# Altium footprint library SmartDoor.PcbLib: 29 footprints (part 1 of 2)
Each footprint in its own frame and in the unit in brackets; x right, y up, seen from the top. Pads: shape width x height; smd on the part's side, far side on the other; paste and mask are expansions set on the pad; w line width, h text height; cw(c..) or ccw(c..) is an arc to the next point about the centre after c.
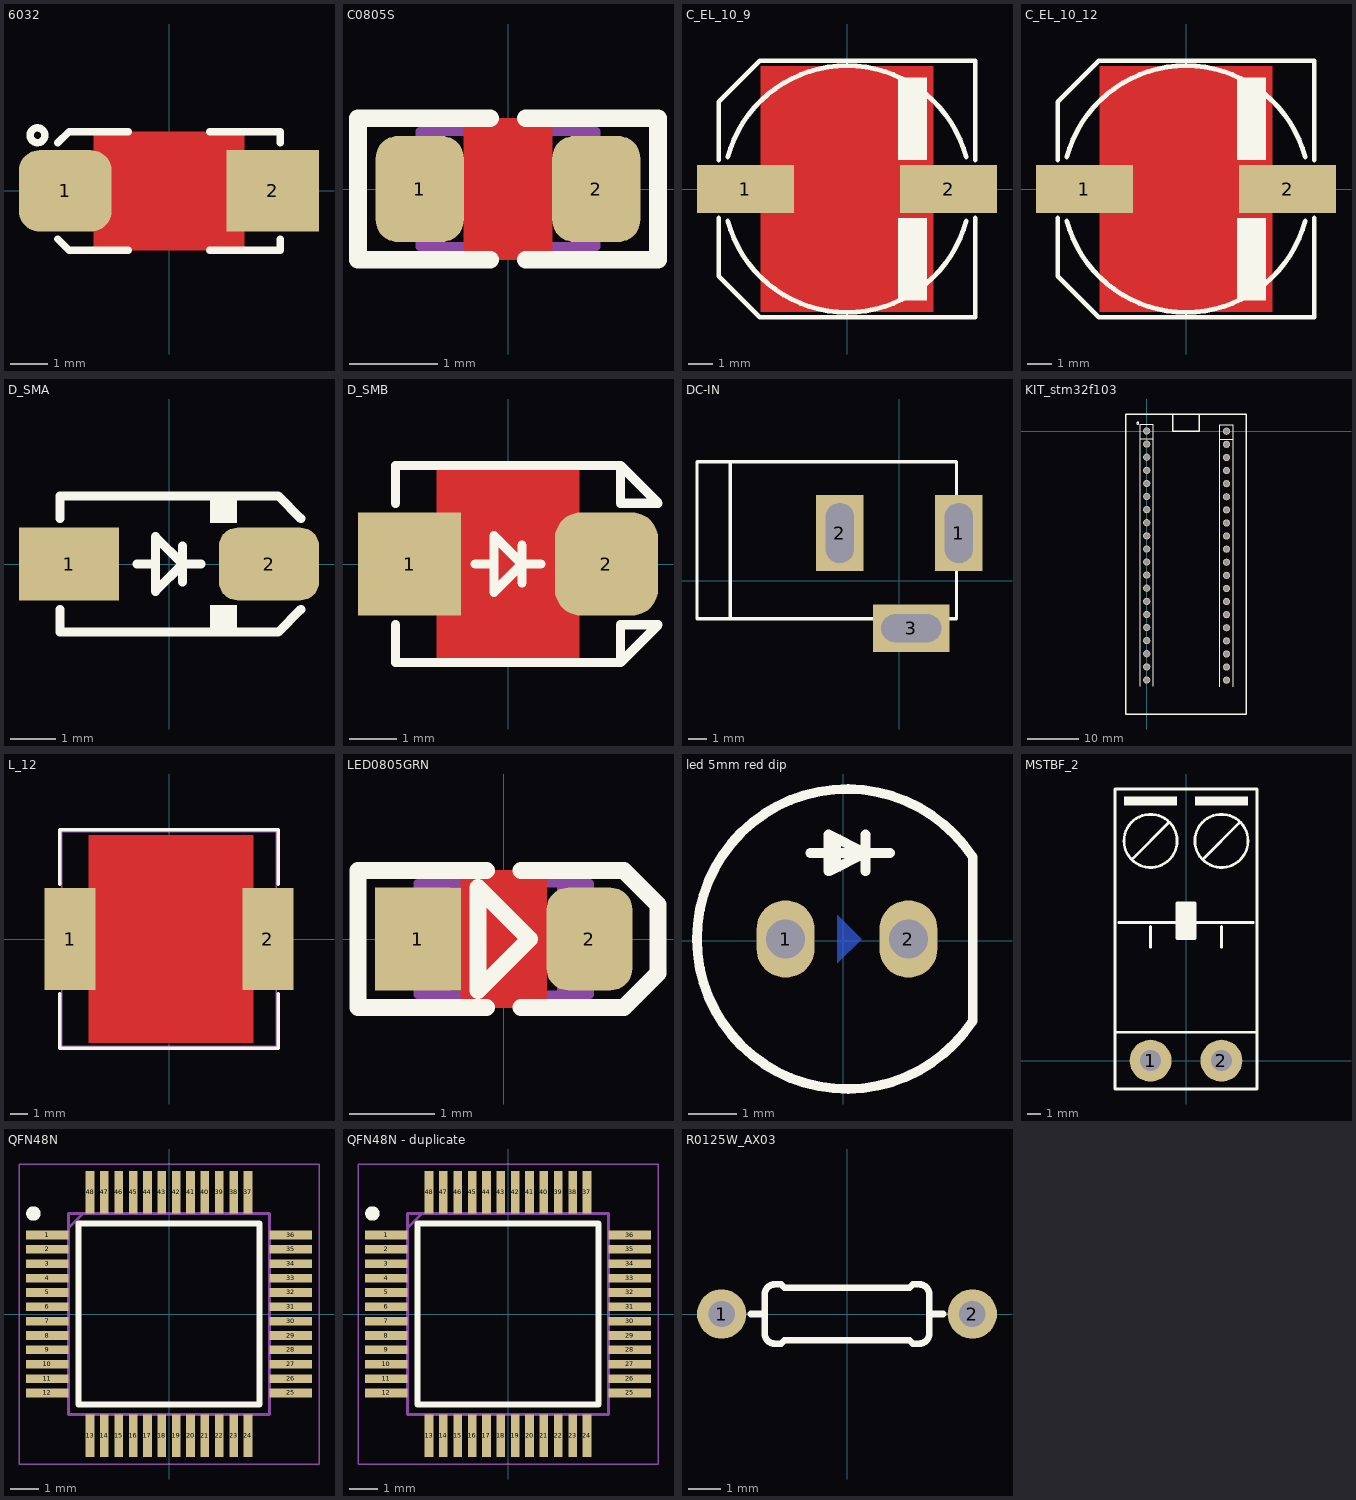
[diagram p0: the footprints below, top view; thin cyan lines are the x and y axes]

## 6032 [mm] "CAPACITOR, TAN C, TAN F, TAN U, TAN L, 6032P, 6.0X3.2mm"
height 2.8
pads (2):
  rrect50% 2.5x2.2 smd: 1(-2.8,0)
  rect 2.5x2.2 smd: 2(2.8,0)
Top Layer:
  pour cut-out: -2.032,1.6 2.032,1.6 2.032,-1.6 -2.032,-1.6
Top Overlay:
  circle w0.2: c-3.55,1.5 r0.2
  lines w0.2: -3,-1.3 -2.7,-1.6 -1.1,-1.6 ; -3,1.3 -2.7,1.6 -1.1,1.6 ; 1.1,-1.6 3,-1.6 3,-1.3 ; 1.1,1.6 3,1.6 3,1.3
3D body "User Library-CAP_TANT_6032-28_y.step": height 2.8, standoff 0, extent -3.15,-1.75 3.15,1.75

## C0805S [mm] "CHIP Capacitor, 2.0X1.3mm, 0805, soldered"
height 10.16
pads (2):
  rrect50% 1x1.2 smd mask+0.075: 1(-1,0) 2(1,0)
Top Layer:
  pour cut-out: -0.5,0.8 0.5,0.8 0.5,-0.8 -0.5,-0.8
Top Overlay:
  lines w0.2: -0.2,-0.8 -1.7,-0.8 -1.7,0.8 -0.2,0.8 ; 0.2,-0.8 1.7,-0.8 1.7,0.8 0.2,0.8
Mechanical 13:
  lines w0.1: -1,-0.65 -1,0.65 1,0.65 1,-0.65 -1,-0.65
3D body "c0805_Cap.step": height 0.8, standoff 0, extent -1.4,-0.625 1.4,0.625

## C_EL_10_9 [mm] "Electrolytic Cap, 10.3mm, L: 8.7mm"
height 8.7
pads (2):
  rect 4x2 smd: 1(-4.2,0) 2(4.2,0)
Top Layer:
  pour cut-out: -3.556,5.08 -3.556,-5.08 3.556,-5.08 3.556,5.08
Top Overlay:
  rectangle: 2.1,1.2 3.3,4.6
  rectangle: 2.1,-4.6 3.3,-1.2
  lines w0.2: -5.3,-1.2 -5.3,-3.6 -3.6,-5.3 5.3,-5.3 5.3,-1.2 ; -5.3,1.2 -5.3,3.6 -3.6,5.3 5.3,5.3 5.3,1.2 ; -4.926,-1.32 ccw(c0,0) 4.926,-1.32 ; -4.926,1.32 cw(c0,0) 4.926,1.32
3D body "10x8.7x4.5.stp": height -0.4, standoff -9.1, extent -5.5,-5.15 5.5,5.15

## C_EL_10_12 [mm] "Electrolytic Cap, 10.3mm, L: 12.4mm"
height 12.4
pads (2):
  rect 4x2 smd: 1(-4.2,0) 2(4.2,0)
Top Layer:
  pour cut-out: -3.556,5.08 -3.556,-5.08 3.556,-5.08 3.556,5.08
Top Overlay:
  rectangle: 2.1,-4.6 3.3,-1.2
  rectangle: 2.1,1.2 3.3,4.6
  lines w0.2: -5.3,-1.2 -5.3,-3.6 -3.6,-5.3 5.3,-5.3 5.3,-1.2 ; -5.3,1.2 -5.3,3.6 -3.6,5.3 5.3,5.3 5.3,1.2 ; -4.926,-1.32 ccw(c0,0) 4.926,-1.32 ; -4.926,1.32 cw(c0,0) 4.926,1.32
3D body "10x12.4x4.5.stp": height 12.45, standoff 0.05, extent -5.5,-5.15 5.5,5.15

## D_SMA [mm] "SMA Molded Diode, 2-Leads, Body 4.3x2.7mm, SOD-128"
height 2.4
pads (2):
  rect 2.2x1.6 smd: 1(-2.2,0)
  rrect50% 2.2x1.6 smd: 2(2.2,0)
Top Overlay:
  rectangle: 0.9,-1.5 1.5,-0.9
  rectangle: 0.9,0.9 1.5,1.5
  lines w0.2: -2.4,-1 -2.4,-1.5 2.4,-1.5 2.9,-1 ; -2.4,1 -2.4,1.5 2.4,1.5 2.9,1 ; -0.7,0 -0.3,0 ; 0.3,-0.4 0.3,0.4 ; 0.7,0 0.3,0 ; 0.3,0 -0.3,0.6 -0.3,-0.6 0.3,0
3D body "User Library-DIOM5528X26.step": height 2.6, standoff 0.03, extent -2.75,-1.4 2.75,1.4

## D_SMB [mm] "SMB Molded Diode, 2-Leads, Body 4.3x3.5mm"
height 10.16
pads (2):
  rect 2.2x2.2 smd: 1(-2.1,0)
  rrect50% 2.2x2.2 smd: 2(2.1,0)
Top Layer:
  pour cut-out: -1.524,2.1 -1.524,-2.1 1.524,-2.1 1.524,2.1
Top Overlay:
  lines w0.2: -2.4,-1.3 -2.4,-2.1 2.4,-2.1 ; -2.4,1.3 -2.4,2.1 2.4,2.1 ; -0.7,0 -0.3,0 ; 0.3,-0.4 0.3,0.4 ; 0.7,0 0.3,0 ; 0.3,0 -0.3,-0.6 -0.3,0.6 0.3,0 ; 2.4,-2.1 3.2,-1.3 2.4,-1.3 2.4,-2.1 ; 2.4,2.1 2.4,1.3 3.2,1.3 2.4,2.1
3D body "User Library-DIOM5539X24.step": height 2.45, standoff 0.03, extent -2.75,-1.95 2.75,1.95

## DC-IN [mm]
height 10.16
pads (3):
  rect 2.54x4.064 hole 1.5 slot 3.2 at 90 deg: 1(3.175,2.54) 2(-3.175,2.54)
  rect 4.064x2.54 hole 1.5 slot 3.2 at 0 deg: 3(0.635,-2.54)
Top Overlay:
  lines w0.178: -9.017,-2.032 -9.017,6.35 ; -10.795,-2.032 3.048,-2.032 3.048,6.35 -10.795,6.35 -10.795,-2.032
3D body "SW3dPS-dc range - dc connector[4840.2201].STEP": height 11.02, standoff -3.48, extent -10.423,-2.67 3.404,6.836

## KIT_stm32f103 [mm]
pads (40):
  round 1.4 / inner round 1.4 / far side oval 2.2x1.4 hole 1: 1(0,0) 2(0,-2.54) 3(0,-5.08) 4(0,-7.62) 5(0,-10.16) 6(0,-12.7) 7(0,-15.24) 8(0,-17.78) 9(0,-20.32) 10(0,-22.86) 11(0,-25.4) 12(0,-27.94) 13(0,-30.48) 14(0,-33.02) 15(0,-35.56) 16(0,-38.1) 17(0,-40.64) 18(0,-43.18) 19(0,-45.72) 20(0,-48.26) 21(15.474,-48.302) 22(15.474,-45.762) 23(15.474,-43.222) 24(15.474,-40.682) 25(15.474,-38.142) 26(15.474,-35.602) 27(15.474,-33.062) 28(15.474,-30.522) 29(15.474,-27.982) 30(15.474,-25.442) 31(15.474,-22.902) 32(15.474,-20.362) 33(15.474,-17.822) 34(15.474,-15.282) 35(15.474,-12.742) 36(15.474,-10.202) 37(15.474,-7.662) 38(15.474,-5.122) 39(15.474,-2.582) 40(15.474,-0.042)
Top Overlay:
  circle w0.2: c-1.7,1.53 r0.2
  lines w0.2: -1.27,-49.53 -1.27,1.27 1.27,1.27 1.27,-49.53 ; -1.27,-1.53 1.27,-1.53 ; 14.204,-49.572 14.204,1.228 16.744,1.228 16.744,-49.572 ; 14.204,-1.572 16.744,-1.572
  lines w0.254: 5.08,3.302 5.08,0 10.16,0 10.16,3.302 ; -4.064,-54.864 -4.064,3.302 19.304,3.302 19.304,-54.864 -4.064,-54.864
3D body "PBD-2.stp": height 8.5, standoff -3.15, extent 14.204,-3.852 16.744,1.228
3D body "PBD-2.stp": height 8.5, standoff -3.15, extent 14.204,-8.932 16.744,-3.852
3D body "PBD-2.stp": height 8.5, standoff -3.15, extent 14.204,-14.012 16.744,-8.932
3D body "PBD-2.stp": height 8.5, standoff -3.15, extent 14.204,-19.092 16.744,-14.012
3D body "PBD-2.stp": height 8.5, standoff -3.15, extent 14.204,-24.172 16.744,-19.092
3D body "PBD-2.stp": height 8.5, standoff -3.15, extent 14.204,-29.252 16.744,-24.172
3D body "PBD-2.stp": height 8.5, standoff -3.15, extent 14.204,-34.332 16.744,-29.252
3D body "PBD-2.stp": height 8.5, standoff -3.15, extent 14.204,-39.412 16.744,-34.332
3D body "PBD-2.stp": height 8.5, standoff -3.15, extent 14.204,-44.492 16.744,-39.412
3D body "PBD-2.stp": height 8.5, standoff -3.15, extent 14.204,-49.572 16.744,-44.492
3D body "PBD-2.stp": height 8.5, standoff -3.15, extent -1.27,-3.81 1.27,1.27
3D body "PBD-2.stp": height 8.5, standoff -3.15, extent -1.27,-8.89 1.27,-3.81
3D body "PBD-2.stp": height 8.5, standoff -3.15, extent -1.27,-13.97 1.27,-8.89
3D body "PBD-2.stp": height 8.5, standoff -3.15, extent -1.27,-19.05 1.27,-13.97
3D body "PBD-2.stp": height 8.5, standoff -3.15, extent -1.27,-24.13 1.27,-19.05
3D body "PBD-2.stp": height 8.5, standoff -3.15, extent -1.27,-29.21 1.27,-24.13
3D body "PBD-2.stp": height 8.5, standoff -3.15, extent -1.27,-34.29 1.27,-29.21
3D body "PBD-2.stp": height 8.5, standoff -3.15, extent -1.27,-39.37 1.27,-34.29
3D body "PBD-2.stp": height 8.5, standoff -3.15, extent -1.27,-44.45 1.27,-39.37
3D body "PBD-2.stp": height 8.5, standoff -3.15, extent -1.27,-49.53 1.27,-44.45
3D body "stm32f103c8t6-board.x_t": height 19.26, standoff 2.26, extent -3.88,-54.752 19.12,3.048

## L_12 [mm] "INDUCTOR, 13.5x12.5mm, DR125, CDRH127, D128C 931AS"
height 7
pads (2):
  rect 3x6 smd: 1(-5.8,0) 2(5.8,0)
Top Layer:
  pour cut-out: -4.699,6.096 4.953,6.096 4.953,-6.096 -4.699,-6.096
Top Overlay:
  lines w0.2: -6.4,-3.2 -6.4,-6.4 6.4,-6.4 6.4,-3.2 ; -6.4,3.2 -6.4,6.4 6.4,6.4 6.4,3.2
Mechanical 13:
  lines w0.1: -6.3,-6.3 -6.3,6.3 6.3,6.3 6.3,-6.3 -6.3,-6.3
3D body "User Library-D128C.step": height 8.16, standoff 0, extent -6.158,-6.15 6.158,6.15

## LED0805GRN [mm] "LED SMD 0805, GREEN"
height 1.4
pads (2):
  rect 1x1.2 smd mask+0.075: 1(-1,0)
  rrect50% 1x1.2 smd mask+0.075: 2(1,0)
Top Layer:
  pour cut-out: -0.5,0.8 0.5,0.8 0.5,-0.8 -0.5,-0.8
Top Overlay:
  lines w0.2: -0.2,-0.8 -1.7,-0.8 -1.7,0.8 -0.2,0.8 ; 0.2,-0.8 1.4,-0.8 1.8,-0.4 1.8,0.4 1.4,0.8 0.2,0.8 ; -0.3,-0.6 0.3,0 -0.3,0.6 -0.3,-0.6
Mechanical 13:
  region: 0.995,-0.19 0.842,-0.19 0.842,-0.65 0.995,-0.65
  region: 0.995,0.65 0.842,0.65 0.842,0.191 0.995,0.191
  region: 0.848,0.65 0.619,0.65 0.619,-0.65 0.848,-0.65
  rectangle: -0.995,-0.65 -0.842,-0.191
  rectangle: -0.995,0.19 -0.842,0.65
  rectangle: -0.848,-0.65 -0.619,0.65
  lines w0.102: -0.305,0.356 -0.076,0.025 -0.33,0 -0.076,-0.33 ; 0.102,0.356 0.33,0.025 0.076,0 0.33,-0.33 ; -0.076,-0.33 -0.229,-0.279 -0.076,-0.178 -0.076,-0.33 ; 0.33,-0.33 0.178,-0.279 0.33,-0.178 0.33,-0.33 ; -1,-0.65 -1,-0.191 ccw(c-1,0) -1,0.191 -1,0.65 1,0.65 1,0.191 ccw(c1,0) 1,-0.191 1,-0.65 -1,-0.65
3D body "User Library-Wurth Elektronik WL-SMCW 0805 (2012) LED Lens (Separate Body).step": height 0.7, standoff 0.3, extent -0.7,-0.625 0.7,0.625
3D body "User Library-Wurth Elektronik WL-SMCW 0805 (2012) LED Base (Separate Lens).step": height 0.64, standoff 0, extent -1,-0.625 1,0.625

## led 5mm red dip [mm]
height 10.16
pads (2):
  oval 1.2x1.6 hole 0.8: 1(-1.188,0.033) 2(1.352,0.033)
Bottom Layer:
  region: -0.118,0.533 -0.118,-0.467 0.382,0.033
Top Overlay:
  rectangle: -0.299,1.43 -0.045,2.192
  lines w0.2: -0.68,1.811 0.971,1.811 ; 0.463,1.43 0.463,2.192 ; 2.682,-1.667 2.682,1.733 ; 2.682,-1.656 cw(c0.082,0.033) 2.682,1.721 ; -0.299,1.43 -0.299,2.192 0.463,1.811 -0.299,1.43
3D body "LED-D5R.step": height 9.14, standoff -6.3, extent -2.918,-2.967 2.582,3.033

## MSTBF_2 [mm] "PHOENIX MSTB 2, 5-G, 5.08mm pitch, 2pin"
height 10.16
pads (2):
  round 3 hole 1.5: 1(-2.54,0) 2(2.54,0)
Top Overlay:
  circle w0.2: c2.54,15.748 r1.905
  circle w0.2: c-2.54,15.748 r1.905
  region: 0.635,11.303 -0.635,11.303 -0.635,8.763 0.635,8.763
  region: 4.445,18.923 0.635,18.923 0.635,18.288 4.445,18.288
  region: -0.635,18.923 -4.445,18.923 -4.445,18.288 -0.635,18.288
  lines w0.2: -5.08,2.032 5.08,2.032 ; -4.826,9.906 4.826,9.906 ; -3.81,14.478 -1.27,17.018 ; -2.54,8.128 -2.54,9.618 ; 1.27,14.478 3.81,17.018 ; 2.54,8.128 2.54,9.618 ; -5.08,-2.032 5.08,-2.032 5.08,19.468 -5.08,19.468 -5.08,-2.032 ; -0.635,8.763 0.635,8.763 0.635,11.303 -0.635,11.303 -0.635,8.763
3D body "PHOENIX_MSTB2W.stp": height 15, standoff 0, extent -5,1 5,19.2
3D body "PHOENIX_MSTB2.stp": height 8.6, standoff -3.5, extent -5,-2 5,10

## PCBComponent_1 [mm]

## QFN48N [mm]
pads (48):
  rect 1.475x0.3 smd: 1(-4.238,2.75) 2(-4.238,2.25) 3(-4.238,1.75) 4(-4.238,1.25) 5(-4.238,0.75) 6(-4.238,0.25) 7(-4.238,-0.25) 8(-4.238,-0.75) 9(-4.238,-1.25) 10(-4.238,-1.75) 11(-4.238,-2.25) 12(-4.238,-2.75) 25(4.238,-2.75) 26(4.238,-2.25) 27(4.238,-1.75) 28(4.238,-1.25) 29(4.238,-0.75) 30(4.238,-0.25) 31(4.238,0.25) 32(4.238,0.75) 33(4.238,1.25) 34(4.238,1.75) 35(4.238,2.25) 36(4.238,2.75)
  rect 0.3x1.475 smd: 13(-2.75,-4.238) 14(-2.25,-4.238) 15(-1.75,-4.238) 16(-1.25,-4.238) 17(-0.75,-4.238) 18(-0.25,-4.238) 19(0.25,-4.238) 20(0.75,-4.238) 21(1.25,-4.238) 22(1.75,-4.238) 23(2.25,-4.238) 24(2.75,-4.238) 37(2.75,4.238) 38(2.25,4.238) 39(1.75,4.238) 40(1.25,4.238) 41(0.75,4.238) 42(0.25,4.238) 43(-0.25,4.238) 44(-0.75,4.238) 45(-1.25,4.238) 46(-1.75,4.238) 47(-2.25,4.238) 48(-2.75,4.238)
Top Overlay:
  circle w0.25: c-4.725,3.5 r0.125
  lines w0.2: -3.15,-3.15 3.15,-3.15 3.15,3.15 -3.15,3.15 -3.15,-3.15
Mechanical 13:
  lines w0.1: -3.5,3 -3,3.5 ; -3.5,-3.5 3.5,-3.5 3.5,3.5 -3.5,3.5 -3.5,-3.5
Mechanical 15:
  lines w0.05: -5.225,-5.225 5.225,-5.225 5.225,5.225 -5.225,5.225 -5.225,-5.225
3D body "STM32F103C8T6TR.stp": height 1.6, standoff 0, extent -4.5,-4.5 4.5,4.5

## QFN48N - duplicate [mm]
height 10.16
pads (48):
  rect 1.475x0.3 smd: 1(-4.238,2.75) 2(-4.238,2.25) 3(-4.238,1.75) 4(-4.238,1.25) 5(-4.238,0.75) 6(-4.238,0.25) 7(-4.238,-0.25) 8(-4.238,-0.75) 9(-4.238,-1.25) 10(-4.238,-1.75) 11(-4.238,-2.25) 12(-4.238,-2.75) 25(4.238,-2.75) 26(4.238,-2.25) 27(4.238,-1.75) 28(4.238,-1.25) 29(4.238,-0.75) 30(4.238,-0.25) 31(4.238,0.25) 32(4.238,0.75) 33(4.238,1.25) 34(4.238,1.75) 35(4.238,2.25) 36(4.238,2.75)
  rect 0.3x1.475 smd: 13(-2.75,-4.238) 14(-2.25,-4.238) 15(-1.75,-4.238) 16(-1.25,-4.238) 17(-0.75,-4.238) 18(-0.25,-4.238) 19(0.25,-4.238) 20(0.75,-4.238) 21(1.25,-4.238) 22(1.75,-4.238) 23(2.25,-4.238) 24(2.75,-4.238) 37(2.75,4.238) 38(2.25,4.238) 39(1.75,4.238) 40(1.25,4.238) 41(0.75,4.238) 42(0.25,4.238) 43(-0.25,4.238) 44(-0.75,4.238) 45(-1.25,4.238) 46(-1.75,4.238) 47(-2.25,4.238) 48(-2.75,4.238)
Top Overlay:
  circle w0.25: c-4.725,3.5 r0.125
  lines w0.2: -3.15,-3.15 -3.15,3.15 3.15,3.15 3.15,-3.15 -3.15,-3.15
Mechanical 13:
  lines w0.1: -3.5,3 -3,3.5 ; -3.5,-3.5 -3.5,3.5 3.5,3.5 3.5,-3.5 -3.5,-3.5
Mechanical 15:
  lines w0.05: -5.225,-5.225 -5.225,5.225 5.225,5.225 5.225,-5.225 -5.225,-5.225
3D body "STM32F103C8T6TR.stp": height 1.6, standoff 0, extent -4.5,-4.5 4.5,4.5

## R0125W_AX03 [mm] "RESISTOR 1/8 WATT, AXIAL0.3 INCH SPACING"
height 10.16
pads (2):
  round 1.5 hole 0.8: 1(-3.81,0) 2(3.81,0)
Top Overlay:
  lines w0.2: -2.921,0 -2.5,0 ; 2.5,0 2.921,0 ; -2.5,-0.6 ccw(c-2.2,-0.6) -2.2,-0.9 -2,-0.9 -1.9,-0.8 1.9,-0.8 2,-0.9 2.2,-0.9 ccw(c2.2,-0.6) 2.5,-0.6 2.5,0.6 ccw(c2.2,0.6) 2.2,0.9 2,0.9 1.9,0.8 -1.9,0.8 -2,0.9 -2.2,0.9 ccw(c-2.2,0.6) -2.5,0.6 -2.5,-0.6
3D body "1M.STEP": height 1.85, standoff -3, extent -4.16,-0.85 4.16,0.85